# Altium footprint library Package_SO.PcbLib: 393 footprints (part 21 of 25)
Each footprint in its own frame and in the unit in brackets; x right, y up, seen from the top. Pads: shape width x height; smd on the part's side, far side on the other; paste and mask are expansions set on the pad; w line width, h text height; cw(c..) or ccw(c..) is an arc to the next point about the centre after c.
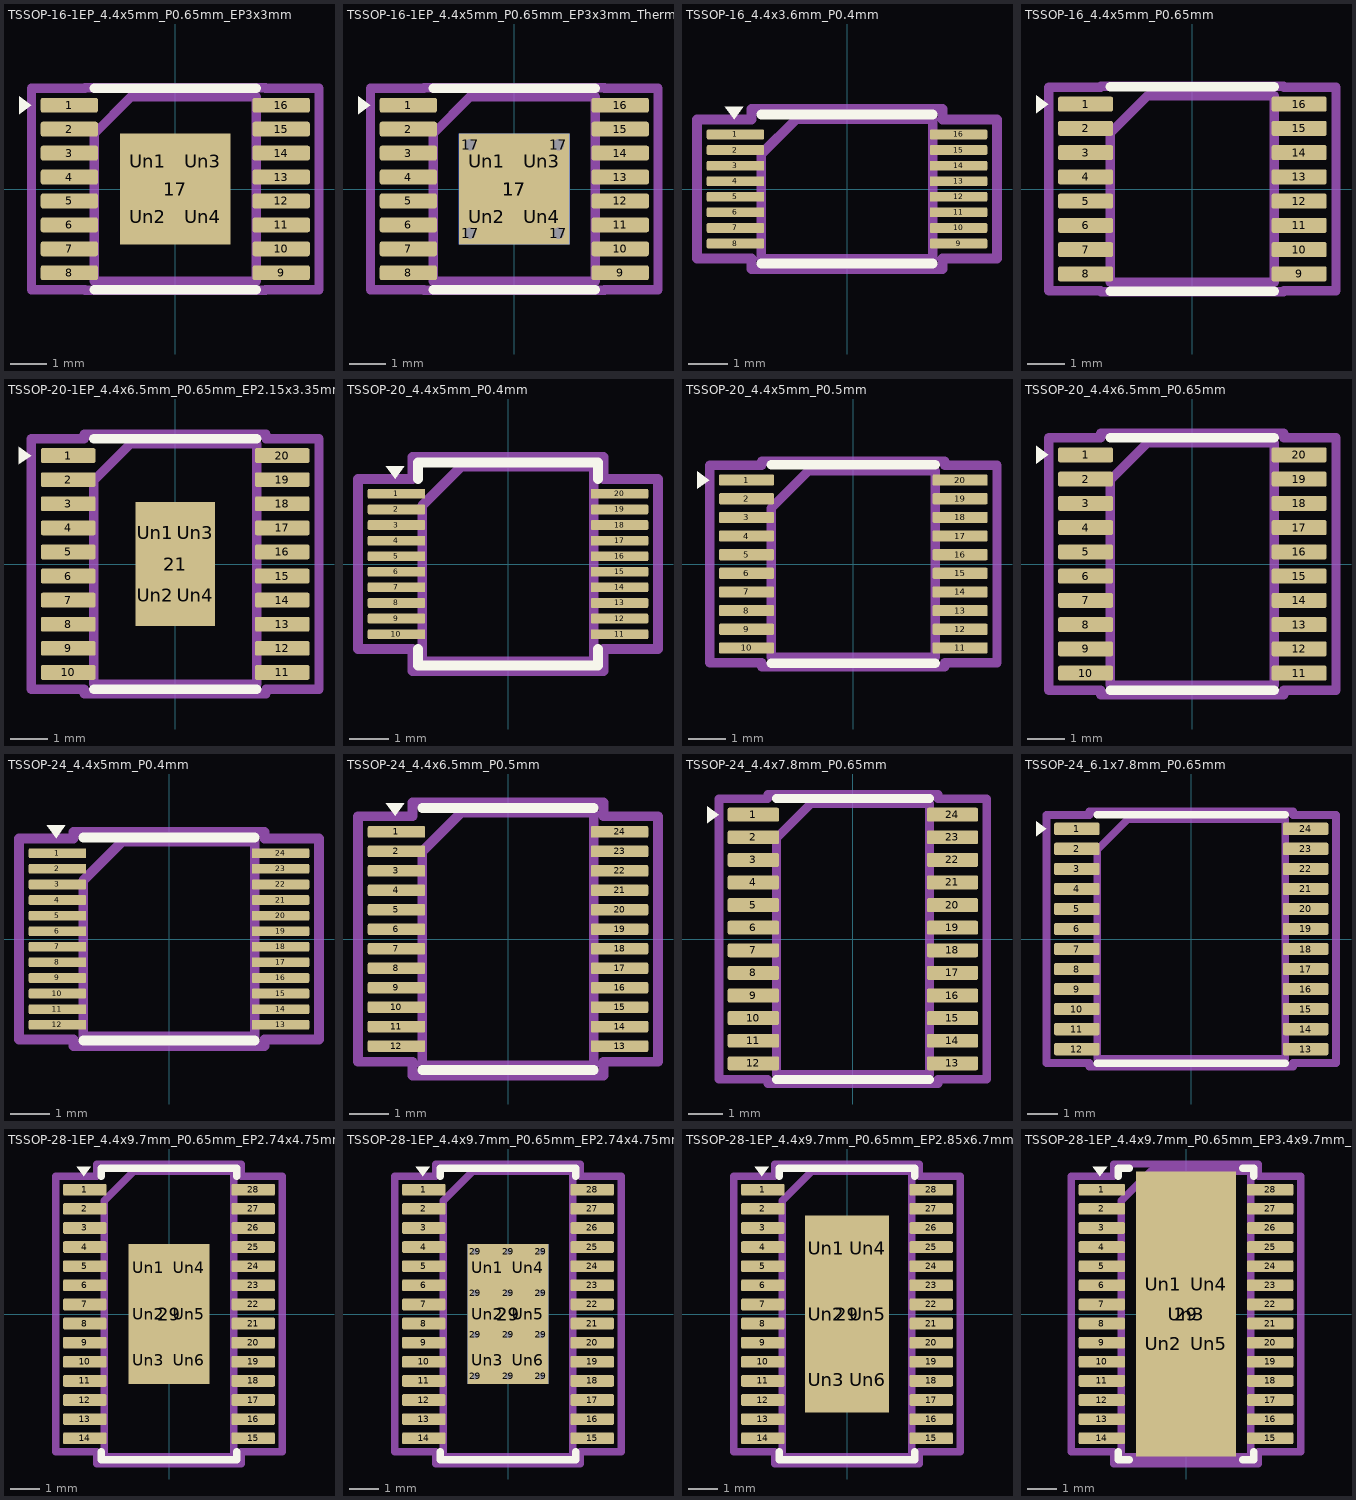
[diagram p20: the footprints below, top view; thin cyan lines are the x and y axes]

## TSSOP-16-1EP_4.4x5mm_P0.65mm_EP3x3mm [mm]
pads (21):
  rrect25% 1.55x0.4 smd: 1(-2.875,2.275) 2(-2.875,1.625) 3(-2.875,0.975) 4(-2.875,0.325) 5(-2.875,-0.325) 6(-2.875,-0.975) 7(-2.875,-1.625) 8(-2.875,-2.275) 9(2.875,-2.275) 10(2.875,-1.625) 11(2.875,-0.975) 12(2.875,-0.325) 13(2.875,0.325) 14(2.875,0.975) 15(2.875,1.625) 16(2.875,2.275)
  rect 3x3 smd: 17(0,0)
  rrect21% 1.21x1.21 on Top Paste: Un1(-0.75,0.75) Un2(-0.75,-0.75) Un3(0.75,0.75) Un4(0.75,-0.75)
F.SilkS:
  region: -3.91,2.275 -4.24,2.035 -4.24,2.515
  lines w0.254: -2.2,-2.735 0,-2.735 2.2,-2.735 ; -2.2,2.735 0,2.735 2.2,2.735
Top Assembly:
  lines w0.254: -2.2,-2.5 2.2,-2.5 2.2,2.5 -1.2,2.5 -2.2,1.5 -2.2,-2.5
  text "'.Designator'" at -4.047,-0.84 h1
Top Courtyard:
  lines w0.254: -3.9,-2.73 -2.45,-2.73 -2.45,-2.75 2.45,-2.75 2.45,-2.73 3.9,-2.73 3.9,2.73 2.45,2.73 2.45,2.75 -2.45,2.75 -2.45,2.73 -3.9,2.73 -3.9,-2.73
Top Designator:
  text ".Designator" at -7.724,-0.508 h1.52

## TSSOP-16-1EP_4.4x5mm_P0.65mm_EP3x3mm_ThermalVias [mm]
pads (26):
  rrect25% 1.55x0.4 smd: 1(-2.875,2.275) 2(-2.875,1.625) 3(-2.875,0.975) 4(-2.875,0.325) 5(-2.875,-0.325) 6(-2.875,-0.975) 7(-2.875,-1.625) 8(-2.875,-2.275) 9(2.875,-2.275) 10(2.875,-1.625) 11(2.875,-0.975) 12(2.875,-0.325) 13(2.875,0.325) 14(2.875,0.975) 15(2.875,1.625) 16(2.875,2.275)
  round 0.6 hole 0.3: 17(-1.2,-1.2) 17(-1.2,1.2) 17(1.2,-1.2) 17(1.2,1.2)
  rect 3x3 smd: 17(0,0)
  rect 3x3 smd far side: 17(0,0)
  rrect21% 1.21x1.21 on Top Paste: Un1(-0.75,0.75) Un2(-0.75,-0.75) Un3(0.75,0.75) Un4(0.75,-0.75)
F.SilkS:
  region: -3.91,2.275 -4.24,2.035 -4.24,2.515
  lines w0.254: -2.2,-2.735 0,-2.735 2.2,-2.735 ; -2.2,2.735 0,2.735 2.2,2.735
Top Assembly:
  lines w0.254: -2.2,-2.5 2.2,-2.5 2.2,2.5 -1.2,2.5 -2.2,1.5 -2.2,-2.5
  text "'.Designator'" at -4.047,-0.84 h1
Top Courtyard:
  lines w0.254: -3.9,-2.73 -2.45,-2.73 -2.45,-2.75 2.45,-2.75 2.45,-2.73 3.9,-2.73 3.9,2.73 2.45,2.73 2.45,2.75 -2.45,2.75 -2.45,2.73 -3.9,2.73 -3.9,-2.73
Top Designator:
  text ".Designator" at -7.724,-0.508 h1.52

## TSSOP-16_4.4x3.6mm_P0.4mm [mm]
pads (16):
  rrect25% 1.475x0.25 smd: 1(-2.863,1.4) 2(-2.863,1) 3(-2.863,0.6) 4(-2.863,0.2) 5(-2.863,-0.2) 6(-2.863,-0.6) 7(-2.863,-1) 8(-2.863,-1.4) 9(2.863,-1.4) 10(2.863,-1) 11(2.863,-0.6) 12(2.863,-0.2) 13(2.863,0.2) 14(2.863,0.6) 15(2.863,1) 16(2.863,1.4)
F.SilkS:
  region: -2.9,1.785 -3.14,2.115 -2.66,2.115
  lines w0.254: -2.2,-1.91 0,-1.91 2.2,-1.91 ; -2.2,1.91 0,1.91 2.2,1.91
Top Assembly:
  lines w0.254: -2.2,-1.8 2.2,-1.8 2.2,1.8 -1.3,1.8 -2.2,0.9 -2.2,-1.8
  text "'.Designator'" at -4.047,-0.84 h1
Top Courtyard:
  lines w0.254: -3.85,-1.78 -2.45,-1.78 -2.45,-2.05 2.45,-2.05 2.45,-1.78 3.85,-1.78 3.85,1.78 2.45,1.78 2.45,2.05 -2.45,2.05 -2.45,1.78 -3.85,1.78 -3.85,-1.78
Top Designator:
  text ".Designator" at -7.727,-0.508 h1.52

## TSSOP-16_4.4x5mm_P0.65mm [mm]
pads (16):
  rrect25% 1.475x0.4 smd: 1(-2.863,2.275) 2(-2.863,1.625) 3(-2.863,0.975) 4(-2.863,0.325) 5(-2.863,-0.325) 6(-2.863,-0.975) 7(-2.863,-1.625) 8(-2.863,-2.275) 9(2.863,-2.275) 10(2.863,-1.625) 11(2.863,-0.975) 12(2.863,-0.325) 13(2.863,0.325) 14(2.863,0.975) 15(2.863,1.625) 16(2.863,2.275)
F.SilkS:
  region: -3.86,2.275 -4.19,2.035 -4.19,2.515
  lines w0.254: -2.2,-2.735 0,-2.735 2.2,-2.735 ; -2.2,2.735 0,2.735 2.2,2.735
Top Assembly:
  lines w0.254: -2.2,-2.5 2.2,-2.5 2.2,2.5 -1.2,2.5 -2.2,1.5 -2.2,-2.5
  text "'.Designator'" at -4.047,-0.84 h1
Top Courtyard:
  lines w0.254: -3.85,-2.73 -2.45,-2.73 -2.45,-2.75 2.45,-2.75 2.45,-2.73 3.85,-2.73 3.85,2.73 2.45,2.73 2.45,2.75 -2.45,2.75 -2.45,2.73 -3.85,2.73 -3.85,-2.73
Top Designator:
  text ".Designator" at -7.727,-0.508 h1.52

## TSSOP-20-1EP_4.4x6.5mm_P0.65mm_EP2.15x3.35mm [mm]
pads (25):
  rrect25% 1.475x0.4 smd: 1(-2.887,2.925) 2(-2.887,2.275) 3(-2.887,1.625) 4(-2.887,0.975) 5(-2.887,0.325) 6(-2.887,-0.325) 7(-2.887,-0.975) 8(-2.887,-1.625) 9(-2.887,-2.275) 10(-2.887,-2.925) 11(2.887,-2.925) 12(2.887,-2.275) 13(2.887,-1.625) 14(2.887,-0.975) 15(2.887,-0.325) 16(2.887,0.325) 17(2.887,0.975) 18(2.887,1.625) 19(2.887,2.275) 20(2.887,2.925)
  rect 2.15x3.35 smd: 21(0,0)
  rrect25% 0.87x1.35 on Top Paste: Un1(-0.54,0.84) Un2(-0.54,-0.84) Un3(0.54,0.84) Un4(0.54,-0.84)
F.SilkS:
  region: -3.885,2.925 -4.215,2.685 -4.215,3.165
  lines w0.254: -2.2,-3.385 0,-3.385 2.2,-3.385 ; -2.2,3.385 0,3.385 2.2,3.385
Top Assembly:
  lines w0.254: -2.2,-3.25 2.2,-3.25 2.2,3.25 -1.2,3.25 -2.2,2.25 -2.2,-3.25
  text "'.Designator'" at -4.047,-0.84 h1
Top Courtyard:
  lines w0.254: -3.88,-3.38 -2.45,-3.38 -2.45,-3.5 2.45,-3.5 2.45,-3.38 3.88,-3.38 3.88,3.38 2.45,3.38 2.45,3.5 -2.45,3.5 -2.45,3.38 -3.88,3.38 -3.88,-3.38
Top Designator:
  text ".Designator" at -7.722,-0.508 h1.52

## TSSOP-20_4.4x5mm_P0.4mm [mm]
pads (20):
  rrect25% 1.475x0.25 smd: 1(-2.863,1.8) 2(-2.863,1.4) 3(-2.863,1) 4(-2.863,0.6) 5(-2.863,0.2) 6(-2.863,-0.2) 7(-2.863,-0.6) 8(-2.863,-1) 9(-2.863,-1.4) 10(-2.863,-1.8) 11(2.863,-1.8) 12(2.863,-1.4) 13(2.863,-1) 14(2.863,-0.6) 15(2.863,-0.2) 16(2.863,0.2) 17(2.863,0.6) 18(2.863,1) 19(2.863,1.4) 20(2.863,1.8)
F.SilkS:
  region: -2.9,2.185 -3.14,2.515 -2.66,2.515
  lines w0.254: -2.31,-2.185 -2.31,-2.61 0,-2.61 2.31,-2.61 2.31,-2.185 ; -2.31,2.185 -2.31,2.61 0,2.61 2.31,2.61 2.31,2.185
Top Assembly:
  lines w0.254: -2.2,-2.5 2.2,-2.5 2.2,2.5 -1.2,2.5 -2.2,1.5 -2.2,-2.5
  text "'.Designator'" at -4.047,-0.84 h1
Top Courtyard:
  lines w0.254: -3.85,-2.18 -2.45,-2.18 -2.45,-2.75 2.45,-2.75 2.45,-2.18 3.85,-2.18 3.85,2.18 2.45,2.18 2.45,2.75 -2.45,2.75 -2.45,2.18 -3.85,2.18 -3.85,-2.18
Top Designator:
  text ".Designator" at -7.727,-0.508 h1.52

## TSSOP-20_4.4x5mm_P0.5mm [mm]
pads (20):
  rrect25% 1.475x0.3 smd: 1(-2.863,2.25) 2(-2.863,1.75) 3(-2.863,1.25) 4(-2.863,0.75) 5(-2.863,0.25) 6(-2.863,-0.25) 7(-2.863,-0.75) 8(-2.863,-1.25) 9(-2.863,-1.75) 10(-2.863,-2.25) 11(2.863,-2.25) 12(2.863,-1.75) 13(2.863,-1.25) 14(2.863,-0.75) 15(2.863,-0.25) 16(2.863,0.25) 17(2.863,0.75) 18(2.863,1.25) 19(2.863,1.75) 20(2.863,2.25)
F.SilkS:
  region: -3.86,2.25 -4.19,2.01 -4.19,2.49
  lines w0.254: -2.2,-2.66 0,-2.66 2.2,-2.66 ; -2.2,2.66 0,2.66 2.2,2.66
Top Assembly:
  lines w0.254: -2.2,-2.5 2.2,-2.5 2.2,2.5 -1.2,2.5 -2.2,1.5 -2.2,-2.5
  text "'.Designator'" at -4.047,-0.84 h1
Top Courtyard:
  lines w0.254: -3.85,-2.65 -2.45,-2.65 -2.45,-2.75 2.45,-2.75 2.45,-2.65 3.85,-2.65 3.85,2.65 2.45,2.65 2.45,2.75 -2.45,2.75 -2.45,2.65 -3.85,2.65 -3.85,-2.65
Top Designator:
  text ".Designator" at -7.727,-0.508 h1.52

## TSSOP-20_4.4x6.5mm_P0.65mm [mm]
pads (20):
  rrect25% 1.475x0.4 smd: 1(-2.863,2.925) 2(-2.863,2.275) 3(-2.863,1.625) 4(-2.863,0.975) 5(-2.863,0.325) 6(-2.863,-0.325) 7(-2.863,-0.975) 8(-2.863,-1.625) 9(-2.863,-2.275) 10(-2.863,-2.925) 11(2.863,-2.925) 12(2.863,-2.275) 13(2.863,-1.625) 14(2.863,-0.975) 15(2.863,-0.325) 16(2.863,0.325) 17(2.863,0.975) 18(2.863,1.625) 19(2.863,2.275) 20(2.863,2.925)
F.SilkS:
  region: -3.86,2.925 -4.19,2.685 -4.19,3.165
  lines w0.254: -2.2,-3.385 0,-3.385 2.2,-3.385 ; -2.2,3.385 0,3.385 2.2,3.385
Top Assembly:
  lines w0.254: -2.2,-3.25 2.2,-3.25 2.2,3.25 -1.2,3.25 -2.2,2.25 -2.2,-3.25
  text "'.Designator'" at -4.047,-0.84 h1
Top Courtyard:
  lines w0.254: -3.85,-3.38 -2.45,-3.38 -2.45,-3.5 2.45,-3.5 2.45,-3.38 3.85,-3.38 3.85,3.38 2.45,3.38 2.45,3.5 -2.45,3.5 -2.45,3.38 -3.85,3.38 -3.85,-3.38
Top Designator:
  text ".Designator" at -7.727,-0.508 h1.52

## TSSOP-24_4.4x5mm_P0.4mm [mm]
pads (24):
  rrect25% 1.475x0.25 smd: 1(-2.863,2.2) 2(-2.863,1.8) 3(-2.863,1.4) 4(-2.863,1) 5(-2.863,0.6) 6(-2.863,0.2) 7(-2.863,-0.2) 8(-2.863,-0.6) 9(-2.863,-1) 10(-2.863,-1.4) 11(-2.863,-1.8) 12(-2.863,-2.2) 13(2.863,-2.2) 14(2.863,-1.8) 15(2.863,-1.4) 16(2.863,-1) 17(2.863,-0.6) 18(2.863,-0.2) 19(2.863,0.2) 20(2.863,0.6) 21(2.863,1) 22(2.863,1.4) 23(2.863,1.8) 24(2.863,2.2)
F.SilkS:
  region: -2.9,2.585 -3.14,2.915 -2.66,2.915
  lines w0.254: -2.2,-2.61 0,-2.61 2.2,-2.61 ; -2.2,2.61 0,2.61 2.2,2.61
Top Assembly:
  lines w0.254: -2.2,-2.5 2.2,-2.5 2.2,2.5 -1.2,2.5 -2.2,1.5 -2.2,-2.5
  text "'.Designator'" at -4.047,-0.84 h1
Top Courtyard:
  lines w0.254: -3.85,-2.58 -2.45,-2.58 -2.45,-2.75 2.45,-2.75 2.45,-2.58 3.85,-2.58 3.85,2.58 2.45,2.58 2.45,2.75 -2.45,2.75 -2.45,2.58 -3.85,2.58 -3.85,-2.58
Top Designator:
  text ".Designator" at -7.727,-0.489 h1.52

## TSSOP-24_4.4x6.5mm_P0.5mm [mm]
pads (24):
  rrect25% 1.475x0.3 smd: 1(-2.863,2.75) 2(-2.863,2.25) 3(-2.863,1.75) 4(-2.863,1.25) 5(-2.863,0.75) 6(-2.863,0.25) 7(-2.863,-0.25) 8(-2.863,-0.75) 9(-2.863,-1.25) 10(-2.863,-1.75) 11(-2.863,-2.25) 12(-2.863,-2.75) 13(2.863,-2.75) 14(2.863,-2.25) 15(2.863,-1.75) 16(2.863,-1.25) 17(2.863,-0.75) 18(2.863,-0.25) 19(2.863,0.25) 20(2.863,0.75) 21(2.863,1.25) 22(2.863,1.75) 23(2.863,2.25) 24(2.863,2.75)
F.SilkS:
  region: -2.9,3.16 -3.14,3.49 -2.66,3.49
  lines w0.254: -2.2,-3.36 0,-3.36 2.2,-3.36 ; -2.2,3.36 0,3.36 2.2,3.36
Top Assembly:
  lines w0.254: -2.2,-3.25 2.2,-3.25 2.2,3.25 -1.2,3.25 -2.2,2.25 -2.2,-3.25
  text "'.Designator'" at -4.047,-0.84 h1
Top Courtyard:
  lines w0.254: -3.85,-3.15 -2.45,-3.15 -2.45,-3.5 2.45,-3.5 2.45,-3.15 3.85,-3.15 3.85,3.15 2.45,3.15 2.45,3.5 -2.45,3.5 -2.45,3.15 -3.85,3.15 -3.85,-3.15
Top Designator:
  text ".Designator" at -7.727,-0.508 h1.52

## TSSOP-24_4.4x7.8mm_P0.65mm [mm]
pads (24):
  rrect25% 1.475x0.4 smd: 1(-2.863,3.575) 2(-2.863,2.925) 3(-2.863,2.275) 4(-2.863,1.625) 5(-2.863,0.975) 6(-2.863,0.325) 7(-2.863,-0.325) 8(-2.863,-0.975) 9(-2.863,-1.625) 10(-2.863,-2.275) 11(-2.863,-2.925) 12(-2.863,-3.575) 13(2.863,-3.575) 14(2.863,-2.925) 15(2.863,-2.275) 16(2.863,-1.625) 17(2.863,-0.975) 18(2.863,-0.325) 19(2.863,0.325) 20(2.863,0.975) 21(2.863,1.625) 22(2.863,2.275) 23(2.863,2.925) 24(2.863,3.575)
F.SilkS:
  region: -3.86,3.575 -4.19,3.335 -4.19,3.815
  lines w0.254: -2.2,-4.035 0,-4.035 2.2,-4.035 ; -2.2,4.035 0,4.035 2.2,4.035
Top Assembly:
  lines w0.254: -2.2,-3.9 2.2,-3.9 2.2,3.9 -1.2,3.9 -2.2,2.9 -2.2,-3.9
  text "'.Designator'" at -4.047,-0.84 h1
Top Courtyard:
  lines w0.254: -3.85,-4.03 -2.45,-4.03 -2.45,-4.15 2.45,-4.15 2.45,-4.03 3.85,-4.03 3.85,4.03 2.45,4.03 2.45,4.15 -2.45,4.15 -2.45,4.03 -3.85,4.03 -3.85,-4.03
Top Designator:
  text ".Designator" at -7.727,-0.508 h1.52

## TSSOP-24_6.1x7.8mm_P0.65mm [mm]
pads (24):
  rrect25% 1.475x0.4 smd: 1(-3.712,3.575) 2(-3.712,2.925) 3(-3.712,2.275) 4(-3.712,1.625) 5(-3.712,0.975) 6(-3.712,0.325) 7(-3.712,-0.325) 8(-3.712,-0.975) 9(-3.712,-1.625) 10(-3.712,-2.275) 11(-3.712,-2.925) 12(-3.712,-3.575) 13(3.712,-3.575) 14(3.712,-2.925) 15(3.712,-2.275) 16(3.712,-1.625) 17(3.712,-0.975) 18(3.712,-0.325) 19(3.712,0.325) 20(3.712,0.975) 21(3.712,1.625) 22(3.712,2.275) 23(3.712,2.925) 24(3.712,3.575)
F.SilkS:
  region: -4.71,3.575 -5.04,3.335 -5.04,3.815
  lines w0.254: -3.05,-4.035 0,-4.035 3.05,-4.035 ; -3.05,4.035 0,4.035 3.05,4.035
Top Assembly:
  lines w0.254: -3.05,-3.9 3.05,-3.9 3.05,3.9 -2.05,3.9 -3.05,2.9 -3.05,-3.9
  text "'.Designator'" at -4.047,-0.84 h1
Top Courtyard:
  lines w0.254: -4.7,-4.03 -3.3,-4.03 -3.3,-4.15 3.3,-4.15 3.3,-4.03 4.7,-4.03 4.7,4.03 3.3,4.03 3.3,4.15 -3.3,4.15 -3.3,4.03 -4.7,4.03 -4.7,-4.03
Top Designator:
  text ".Designator" at -7.724,-0.508 h1.52

## TSSOP-28-1EP_4.4x9.7mm_P0.65mm_EP2.74x4.75mm [mm]
pads (35):
  rrect25% 1.475x0.4 smd: 1(-2.863,4.225) 2(-2.863,3.575) 3(-2.863,2.925) 4(-2.863,2.275) 5(-2.863,1.625) 6(-2.863,0.975) 7(-2.863,0.325) 8(-2.863,-0.325) 9(-2.863,-0.975) 10(-2.863,-1.625) 11(-2.863,-2.275) 12(-2.863,-2.925) 13(-2.863,-3.575) 14(-2.863,-4.225) 15(2.863,-4.225) 16(2.863,-3.575) 17(2.863,-2.925) 18(2.863,-2.275) 19(2.863,-1.625) 20(2.863,-0.975) 21(2.863,-0.325) 22(2.863,0.325) 23(2.863,0.975) 24(2.863,1.625) 25(2.863,2.275) 26(2.863,2.925) 27(2.863,3.575) 28(2.863,4.225)
  rect 2.74x4.75 smd: 29(0,0)
  rrect23% 1.1x1.28 on Top Paste: Un1(-0.685,1.58) Un2(-0.685,0) Un3(-0.685,-1.58) Un4(0.685,1.58) Un5(0.685,0) Un6(0.685,-1.58)
F.SilkS:
  region: -2.9,4.685 -3.14,5.015 -2.66,5.015
  lines w0.254: -2.31,-4.685 -2.31,-4.96 0,-4.96 2.31,-4.96 2.31,-4.685 ; -2.31,4.685 -2.31,4.96 0,4.96 2.31,4.96 2.31,4.685
Top Assembly:
  lines w0.254: -2.2,-4.85 -2.2,3.85 -1.2,4.85 2.2,4.85 2.2,-4.85 -2.2,-4.85
  text "'.Designator'" at -4.047,-0.84 h1
Top Courtyard:
  lines w0.254: -3.85,-4.68 -3.85,4.68 -2.45,4.68 -2.45,5.1 2.45,5.1 2.45,4.68 3.85,4.68 3.85,-4.68 2.45,-4.68 2.45,-5.1 -2.45,-5.1 -2.45,-4.68 -3.85,-4.68
Top Designator:
  text ".Designator" at -7.727,-0.508 h1.52

## TSSOP-28-1EP_4.4x9.7mm_P0.65mm_EP2.74x4.75mm_ThermalVias [mm]
pads (48):
  rrect25% 1.475x0.4 smd: 1(-2.863,4.225) 2(-2.863,3.575) 3(-2.863,2.925) 4(-2.863,2.275) 5(-2.863,1.625) 6(-2.863,0.975) 7(-2.863,0.325) 8(-2.863,-0.325) 9(-2.863,-0.975) 10(-2.863,-1.625) 11(-2.863,-2.275) 12(-2.863,-2.925) 13(-2.863,-3.575) 14(-2.863,-4.225) 15(2.863,-4.225) 16(2.863,-3.575) 17(2.863,-2.925) 18(2.863,-2.275) 19(2.863,-1.625) 20(2.863,-0.975) 21(2.863,-0.325) 22(2.863,0.325) 23(2.863,0.975) 24(2.863,1.625) 25(2.863,2.275) 26(2.863,2.925) 27(2.863,3.575) 28(2.863,4.225)
  round 0.5 hole 0.2: 29(-1.12,-2.125) 29(-1.12,-0.708) 29(-1.12,0.708) 29(-1.12,2.125) 29(0,-2.125) 29(0,-0.708) 29(0,0.708) 29(0,2.125) 29(1.12,-2.125) 29(1.12,-0.708) 29(1.12,0.708) 29(1.12,2.125)
  rect 2.74x4.75 smd: 29(0,0)
  rect 2.74x4.75 smd far side: 29(0,0)
  rrect23% 1.1x1.28 on Top Paste: Un1(-0.685,1.58) Un2(-0.685,0) Un3(-0.685,-1.58) Un4(0.685,1.58) Un5(0.685,0) Un6(0.685,-1.58)
F.SilkS:
  region: -2.9,4.685 -3.14,5.015 -2.66,5.015
  lines w0.254: -2.31,-4.685 -2.31,-4.96 0,-4.96 2.31,-4.96 2.31,-4.685 ; -2.31,4.685 -2.31,4.96 0,4.96 2.31,4.96 2.31,4.685
Top Assembly:
  lines w0.254: -2.2,-4.85 2.2,-4.85 2.2,4.85 -1.2,4.85 -2.2,3.85 -2.2,-4.85
  text "'.Designator'" at -4.047,-0.84 h1
Top Courtyard:
  lines w0.254: -3.85,-4.68 -2.45,-4.68 -2.45,-5.1 2.45,-5.1 2.45,-4.68 3.85,-4.68 3.85,4.68 2.45,4.68 2.45,5.1 -2.45,5.1 -2.45,4.68 -3.85,4.68 -3.85,-4.68
Top Designator:
  text ".Designator" at -7.727,-0.508 h1.52

## TSSOP-28-1EP_4.4x9.7mm_P0.65mm_EP2.85x6.7mm [mm]
pads (35):
  rrect25% 1.475x0.4 smd: 1(-2.863,4.225) 2(-2.863,3.575) 3(-2.863,2.925) 4(-2.863,2.275) 5(-2.863,1.625) 6(-2.863,0.975) 7(-2.863,0.325) 8(-2.863,-0.325) 9(-2.863,-0.975) 10(-2.863,-1.625) 11(-2.863,-2.275) 12(-2.863,-2.925) 13(-2.863,-3.575) 14(-2.863,-4.225) 15(2.863,-4.225) 16(2.863,-3.575) 17(2.863,-2.925) 18(2.863,-2.275) 19(2.863,-1.625) 20(2.863,-0.975) 21(2.863,-0.325) 22(2.863,0.325) 23(2.863,0.975) 24(2.863,1.625) 25(2.863,2.275) 26(2.863,2.925) 27(2.863,3.575) 28(2.863,4.225)
  rect 2.85x6.7 smd: 29(0,0)
  rrect22% 1.15x1.8 on Top Paste: Un1(-0.71,2.23) Un2(-0.71,0) Un3(-0.71,-2.23) Un4(0.71,2.23) Un5(0.71,0) Un6(0.71,-2.23)
F.SilkS:
  region: -2.9,4.685 -3.14,5.015 -2.66,5.015
  lines w0.254: -2.31,-4.685 -2.31,-4.96 0,-4.96 2.31,-4.96 2.31,-4.685 ; -2.31,4.685 -2.31,4.96 0,4.96 2.31,4.96 2.31,4.685
Top Assembly:
  lines w0.254: -2.2,-4.85 2.2,-4.85 2.2,4.85 -1.2,4.85 -2.2,3.85 -2.2,-4.85
  text "'.Designator'" at -4.047,-0.84 h1
Top Courtyard:
  lines w0.254: -3.85,-4.68 -2.45,-4.68 -2.45,-5.1 2.45,-5.1 2.45,-4.68 3.85,-4.68 3.85,4.68 2.45,4.68 2.45,5.1 -2.45,5.1 -2.45,4.68 -3.85,4.68 -3.85,-4.68
Top Designator:
  text ".Designator" at -7.727,-0.508 h1.52

## TSSOP-28-1EP_4.4x9.7mm_P0.65mm_EP3.4x9.7mm_Mask3.1x4.05mm [mm]
pads (34):
  rrect25% 1.575x0.4 smd: 1(-2.863,4.225) 2(-2.863,3.575) 3(-2.863,2.925) 4(-2.863,2.275) 5(-2.863,1.625) 6(-2.863,0.975) 7(-2.863,0.325) 8(-2.863,-0.325) 9(-2.863,-0.975) 10(-2.863,-1.625) 11(-2.863,-2.275) 12(-2.863,-2.925) 13(-2.863,-3.575) 14(-2.863,-4.225) 15(2.863,-4.225) 16(2.863,-3.575) 17(2.863,-2.925) 18(2.863,-2.275) 19(2.863,-1.625) 20(2.863,-0.975) 21(2.863,-0.325) 22(2.863,0.325) 23(2.863,0.975) 24(2.863,1.625) 25(2.863,2.275) 26(2.863,2.925) 27(2.863,3.575) 28(2.863,4.225)
  rect 3.4x9.7 smd: 29(0,0)
  rrect20% 1.25x1.63 on Top Paste: Un1(-0.775,1.01) Un2(-0.775,-1.01) Un4(0.775,1.01) Un5(0.775,-1.01)
  rect 3.1x4.05 on Top Solder: Un3(0,0)
F.SilkS:
  region: -2.925,4.685 -3.165,5.015 -2.685,5.015
  lines w0.254: -2.31,-4.685 -2.31,-4.96 -1.936,-4.96 ; -2.31,4.685 -2.31,4.96 -1.936,4.96 ; 1.936,-4.96 2.31,-4.96 2.31,-4.685 ; 1.936,4.96 2.31,4.96 2.31,4.685
Top Assembly:
  lines w0.254: -2.2,-4.85 2.2,-4.85 2.2,4.85 -1.2,4.85 -2.2,3.85 -2.2,-4.85
  text "'.Designator'" at -4.047,-0.84 h1
Top Courtyard:
  lines w0.254: -3.9,-4.68 -2.45,-4.68 -2.45,-5.1 2.45,-5.1 2.45,-4.68 3.9,-4.68 3.9,4.68 2.45,4.68 2.45,5.1 -2.45,5.1 -2.45,4.68 -3.9,4.68 -3.9,-4.68
Top Designator:
  text ".Designator" at -7.702,-0.508 h1.52